# EAGLE library part RN4 (library MIDI Signal Conditioner Parts)
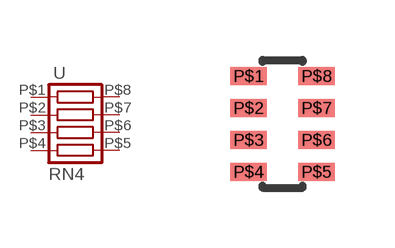
[diagram p6: symbol with the pads of RN4; footprint RN4]

Designator prefix -

## RN4  [RN4]
P$1  1  pas
P$2  2  pas
P$3  3  pas
P$4  4  pas
P$5  5  pas
P$6  6  pas
P$7  7  pas
P$8  8  pas

## Footprint RN4 (pad centres in mm)
smd 0.9 x 0.45: P$1 -0.85,1.2; P$2 -0.85,0.4; P$3 -0.85,-0.4; P$4 -0.85,-1.2; P$5 0.85,-1.2; P$6 0.85,-0.4; P$7 0.85,0.4; P$8 0.85,1.2